# Altium schematic symbol library plug.SchLib: 2 symbols
Pins are listed as number, name and electrical type; pins without a type are passive.

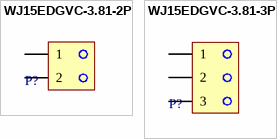
[diagram p0: symbols WJ15EDGVC-3.81-2P to WJ15EDGVC-3.81-3P]

## WJ15EDGVC-3.81-2P
designator P?  (value not drawn)
TERM BLOK FEMALE 1X2 3.81MM; Manufacturer: Ningbo Kangnex Elec; Manufacturer Part Number: WJ15EDGVC-3.81-2P; Category: Bornera enchufable; Datasheet: https://datasheet.lcsc.com/lcsc/1912251633_Ningbo-Kangnex-Elec-WJ15EDGVC-3-81-2P_C8396.pdf
footprint HEADER PLUG 2 (Connector; Header; 2 Position)
pins: 1, 2

## WJ15EDGVC-3.81-3P
designator P?  (value not drawn)
TERM BLOK FEMALE 1X3 3.81MM; Manufacturer: Ningbo Kangnex Elec; Manufacturer Part Number: WJ15EDGVC-3.81-3P; Category: Bornera enchufable; Datasheet: https://datasheet.lcsc.com/lcsc/1912251632_Ningbo-Kangnex-Elec-WJ15EDGVC-3-81-3P_C8389.pdf
footprint HEADER PLUG 3 (Connector; Header; 3 Position)
pins: 1, 2, 3